# Altium footprint library UU10_5.PcbLib: 1 footprints
Each footprint in its own frame and in the unit in brackets; x right, y up, seen from the top. Pads: shape width x height; smd on the part's side, far side on the other; paste and mask are expansions set on the pad; w line width, h text height; cw(c..) or ccw(c..) is an arc to the next point about the centre after c.
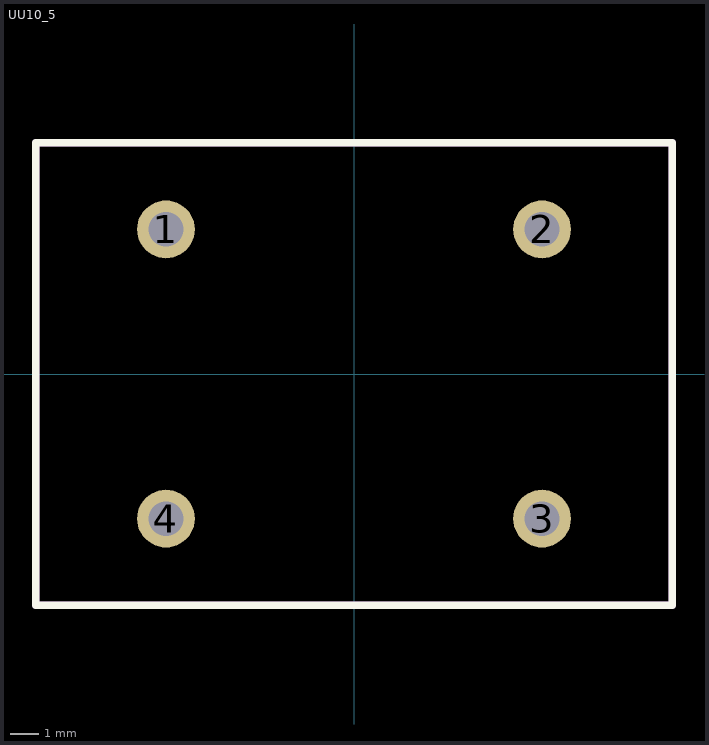
[diagram p0: the footprint, top view; thin cyan lines are the x and y axes]

## UU10_5 [mm]
pads (4):
  round 2 hole 1.2: 1(-6.5,5) 2(6.5,5) 3(6.5,-5) 4(-6.5,-5)
Top Overlay:
  lines w0.254: -11,-8 -11,8 11,8 11,-8 -11,-8
Top Assembly:
  lines w0.254: -11,-8 11,-8 11,8 -11,8 -11,-8
  text "'.Designator'" at 0,0 h0.7
3D body "User Library-UU10_5.STEP": height 24.48, standoff -1.5, extent -10.903,-8 10.891,8